# EAGLE library part ATTINYX16 (library alvie)
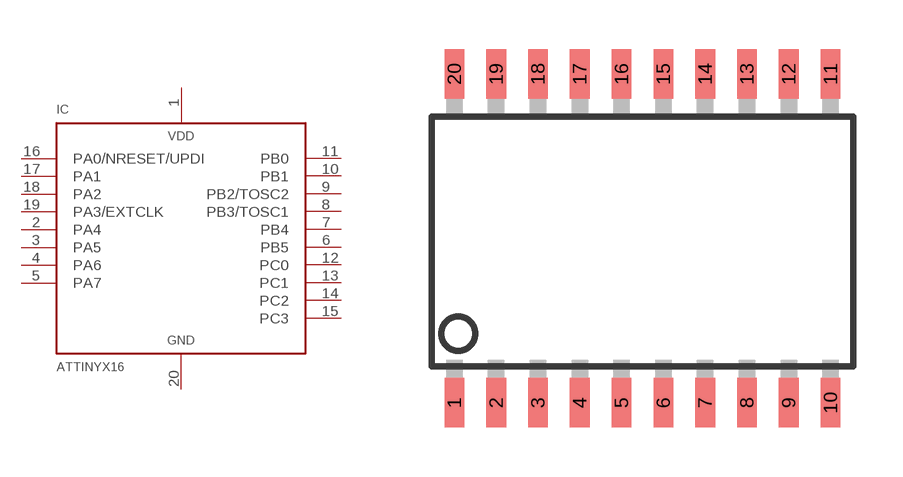
[diagram p42: symbol with the pads of SOIC20S; footprint SOIC20S]

Designator prefix IC

## ATTINYX16S  [SOIC20S]
1  VDD  pwr
2  PA4
3  PA5
4  PA6
5  PA7
6  PB5
7  PB4
8  PB3/TOSC1
9  PB2/TOSC2
10  PB1
11  PB0
12  PC0
13  PC1
14  PC2
15  PC3
16  PA0/NRESET/UPDI
17  PA1
18  PA2
19  PA3/EXTCLK
20  GND  pwr

## Footprint SOIC20S (pad centres in mm)
smd 0.6 x 1.5: 1 -5.715,-5; 2 -4.445,-5; 3 -3.175,-5; 4 -1.905,-5; 5 -0.635,-5; 6 0.635,-5; 7 1.905,-5; 8 3.175,-5; 9 4.445,-5; 10 5.715,-5; 11 5.715,5; 12 4.445,5; 13 3.175,5; 14 1.905,5; 15 0.635,5; 16 -0.635,5; 17 -1.905,5; 18 -3.175,5; 19 -4.445,5; 20 -5.715,5